# Altium schematic symbol library PBL - Resistors.SCHLIB: 153 symbols (part 1 of 3)
Pins are listed as number, name and electrical type; pins without a type are passive.

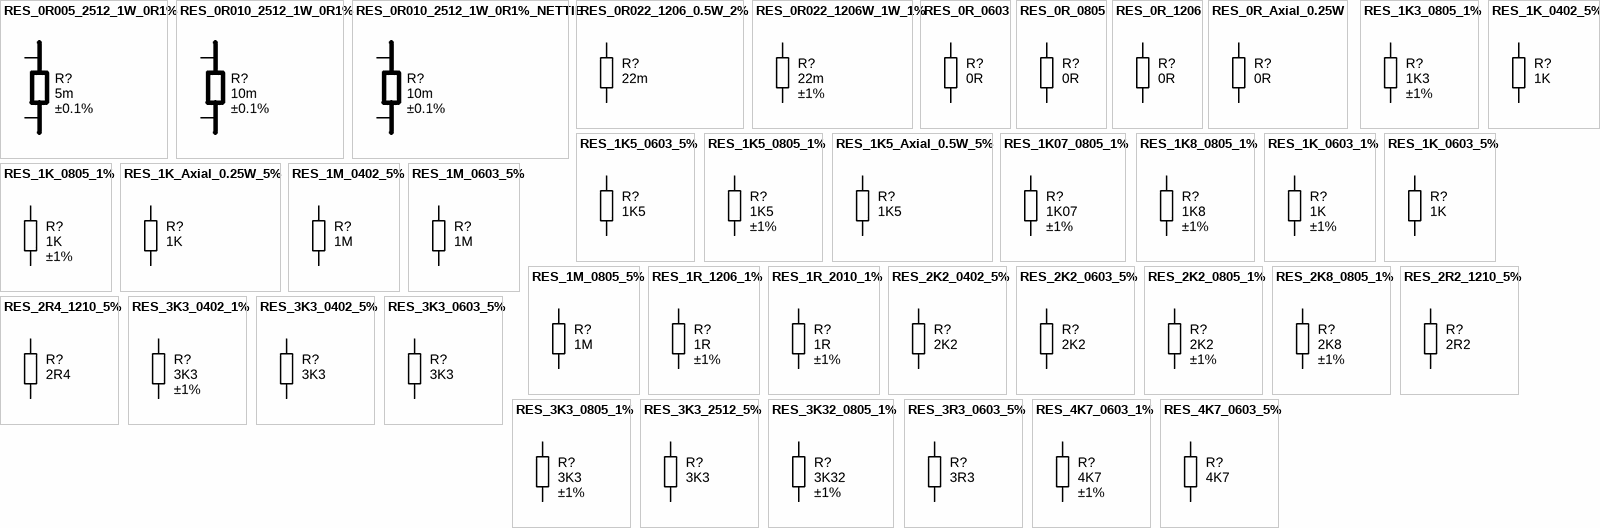
[diagram p0: symbols RES_0R005_2512_1W_0R1% to RES_4K7_0603_5%]

## RES_0R005_2512_1W_0R1%
designator R?, comment value 5m  Tolerance: ±0.1%  (hidden comment: Metal Foil with Kelvin terminations)
RES 0.005 OHM 1W 0.1% 2512 SMD; Manufacturer 1: Vishay Foil Resistors (Division of VPG); Manufacturer Part Number 1: Y14870R00500B9W; Temperature Coefficient: ±15ppm/°C; SCDType: undef; RoHS: RoHS Compliant; Category: Current Sense Resistors; Composition: Current Sense, Metal Foil; Power (Watts): 1W; Lead Style: Surface Mount (SMD - SMT); ComponentLink1URL: http://www.vishaypg.com/docs/63089/csm.pdf; ComponentLink1Description: http://www.vishaypg.com/docs/63089/csm.pdf; Package / Case: 2512 (6432 Metric); Size / Dimension: 0.250" L x 0.125" W (6.35mm x 3.18mm); Supplier 1: Digi-Key; Supplier Part Number 1: Y1487-.005-ND
footprint RESC6332X89_SENSE (SMD Sense Resistor with Kelvin terminations, Body 6.3x3.2mm, 2512, IPC Medium Density)
pins: E1 S, E2 S, I1 I, I2 I

## RES_0R010_2512_1W_0R1%
designator R?, comment value 10m  Tolerance: ±0.1%  (hidden comment: Metal Foil with Kelvin terminations)
RES 0.010 OHM 1W 0.1% 2512 SMD; Manufacturer 1: Vishay Foil Resistors (Division of VPG); Manufacturer Part Number 1: Y14870R01000B9W; Temperature Coefficient: ±15ppm/°C; SCDType: undef; RoHS: RoHS Compliant; Category: Current Sense Resistors; Composition: Current Sense, Metal Foil; Power (Watts): 1W; Lead Style: Surface Mount (SMD - SMT); Supplier 1: Digi-Key; Supplier Part Number 1: Y1487-.01-ND; ComponentLink1URL: http://www.vishaypg.com/docs/63089/csm.pdf; ComponentLink1Description: http://www.vishaypg.com/docs/63089/csm.pdf; Package / Case: 2512 (6432 Metric); Size / Dimension: 0.250" L x 0.125" W (6.35mm x 3.18mm)
footprint RESC6332X89_SENSE (SMD Sense Resistor with Kelvin terminations, Body 6.3x3.2mm, 2512, IPC Medium Density)
pins: E1 S, E2 S, I1 I, I2 I

## RES_0R010_2512_1W_0R1%_NETTIE
designator R?, comment value 10m  Tolerance: ±0.1%  (hidden comment: Metal Foil with Kelvin terminations)  (net tie, no BOM)
RES 0.010 OHM 1W 0.1% 2512 SMD; Manufacturer 1: Vishay Foil Resistors (Division of VPG); Manufacturer Part Number 1: Y14870R01000B9W; Temperature Coefficient: ±15ppm/°C; SCDType: undef; RoHS: RoHS Compliant; Category: Current Sense Resistors; Composition: Current Sense, Metal Foil; Power (Watts): 1W; Lead Style: Surface Mount (SMD - SMT); Supplier 1: Digi-Key; Supplier Part Number 1: Y1487-.01-ND; ComponentLink1URL: http://www.vishaypg.com/docs/63089/csm.pdf; ComponentLink1Description: http://www.vishaypg.com/docs/63089/csm.pdf; Package / Case: 2512 (6432 Metric); Size / Dimension: 0.250" L x 0.125" W (6.35mm x 3.18mm)
footprint RESC6332X89_SENSE_NETTIE (SMD Sense Resistor with Kelvin terminations, Body 6.3x3.2mm, 2512, IPC Medium Density)
pins: E1 S, E2 S, I1 I, I2 I

## RES_0R022_1206_0.5W_2%
designator R?, comment value 22m  (hidden comment: Thick Film)
Resistor SMD chip 22 milliohm 0.5W 2% 1206; Manufacturer 1: Susumu Co Ltd; Manufacturer Part Number 1: RL1632T-R022-G; Ratings: 1/2W; SCDType: spec; Tolerance: ±2%; Package / Case: 1206 (3216 metric); Supplier 1: Digi-Key; Supplier Part Number 1: RL16T.022GCT-ND
footprint RESC3216X70N (Chip Resistor, Body 3.2x1.6mm, 1206, IPC Medium Density)
pins: 1, 2

## RES_0R022_1206W_1W_1%
designator R?, comment value 22m  Tolerance: ±1%  (hidden comment: Thick film)
RES .022 OHM 1W 1% 1206 SMD; Manufacturer 1: Susumu Co Ltd; Manufacturer Part Number 1: PRL1632-R022-F-T1; Temperature Coefficient: ±100ppm/°C; SCDType: undef; Supplier 1: Digi-Key; Supplier Part Number 1: PRL1632.022FCT-ND; RoHS: RoHS Compliant; Description 1: RES .022 OHM 1W 1% 1206 SMD; Category: Resistors; Stock 1: 3537; Pricing 1: 1=1.15, 10=0.811, 50=0.6124, 100=0.5358, 250=0.47456, 500=0.39804 (USD); Composition: Current Sense, Thin Film; Power (Watts): 1W; Case: 1206 (3216 metric) Wide 0612 (1632 metric); Lead Style: Surface Mount (SMD - SMT); Packaging: Cut Tape (CT); ComponentLink1URL: http://www.susumu.co.jp/english/pdf/products-j01-07.pdf; ComponentLink1Description: http://www.susumu.co.jp/english/pdf/products-j01-07.pdf
footprint RESC3216X70N (Chip Resistor, Body 3.2x1.6mm, 1206, IPC Medium Density)
pins: 1, 2

## RES_0R_0603
designator R?, comment value 0R  (hidden comment: Thick Film)
Resistor SMD chip 0.0 Ohm 0.1W 0603; Manufacturer 1: Vishay/Dale; Manufacturer Part Number 1: CRCW06030000Z0EA; Tolerance: ±5%; Ratings: 1/10W; SCDType: spec; Package / Case: 0603 (1608metric); Supplier 1: Digi-Key; Supplier Part Number 1: 541-0.0GCT-ND; ComponentLink1URL: http://www.vishay.com/doc?20035; ComponentLink1Description: http://www.vishay.com/doc?20035; Supplier 2: Digi-Key; Supplier Part Number 2: P0.0GTR-ND; Manufacturer 2: Panasonic Electronic Components; Manufacturer Part Number 2: ERJ-3GEY0R00V; RoHS 2: RoHS Compliant; ComponentLink2URL: http://industrial.panasonic.com/www-cgi/jvcr13pz.cgi?E+PZ+3+AOA0001+ERJ3GEY0R00V+7+WW; ComponentLink2Description: http://industrial.panasonic.com/www-cgi/jvcr13pz.cgi?E+PZ+3+AOA0001+ERJ3GEY0R00V+7+WW; Supplier 3: Digi-Key; Supplier Part Number 3: 311-0.0LECT-ND; Manufacturer 3: Yageo; Manufacturer Part Number 3: AC0603JR-070RL; RoHS 3: RoHS Compliant; ComponentLink3URL: http://www.yageo.com/documents/recent/PYu-AC_51_RoHS_L_2.pdf; ComponentLink3Description: http://www.yageo.com/documents/recent/PYu-AC_51_RoHS_L_2.pdf
footprint RESC1608N_ZERO (Chip Resistor, Body 1.6x0.8mm, 0603, IPC Medium Density)
pins: 1, 2

## RES_0R_0805
designator R?, comment value 0R  (hidden comment: Jumper)
Resistor SMD chip 0.0 Ohm 0.125W 0805; Manufacturer 1: Samsung Electro-Mechanics America, Inc; Manufacturer Part Number 1: RC2012J000CS; Ratings: 1/8W; SCDType: spec; Tolerance: N/A; Package / Case: 0805 (2012 metric); Supplier 1: Digi-Key; Supplier Part Number 1: 1276-5466-6-ND; RoHS 1: RoHS Compliant; ComponentLink1URL: http://www.samsungsem.com/servlet/FileDownload?filename=productcatalog/pdf/Chip_Resistor.pdf; ComponentLink1Description: http://www.samsungsem.com/servlet/FileDownload?filename=productcatalog/pdf/Chip_Resistor.pdf; Supplier 2: Digi-Key; Supplier Part Number 2: RMCF0805ZT0R00DKR-ND; Manufacturer 2: Stackpole Electronics Inc; Manufacturer Part Number 2: RMCF0805ZT0R00; RoHS 2: RoHS Compliant; ComponentLink2URL: http://www.seielect.com/Catalog/SEI-RMCF_RMCP.pdf; ComponentLink2Description: http://www.seielect.com/Catalog/SEI-RMCF_RMCP.pdf; Supplier 3: Digi-Key; Supplier Part Number 3: 311-0.0ARDKR-ND; Manufacturer 3: Yageo; Manufacturer Part Number 3: RC0805JR-070RL; RoHS 3: RoHS Compliant; ComponentLink3URL: http://media.digikey.com/pdf/Data%20Sheets/Yageo%20PDFs/RC0805%20Pb%20Free.pdf; ComponentLink3Description: http://media.digikey.com/pdf/Data%20Sheets/Yageo%20PDFs/RC0805%20Pb%20Free.pdf; Supplier 4: Digi-Key; Supplier Part Number 4: P0.0ADKR-ND; Manufacturer 4: Panasonic Electronic Components; Manufacturer Part Number 4: ERJ-6GEY0R00V; RoHS 4: RoHS Compliant; ComponentLink4URL: http://industrial.panasonic.com/www-cgi/jvcr13pz.cgi?E+PZ+3+AOA0001+ERJ6GEY0R00V+7+WW; ComponentLink4Description: http://industrial.panasonic.com/www-cgi/jvcr13pz.cgi?E+PZ+3+AOA0001+ERJ6GEY0R00V+7+WW; Supplier 5: Digi-Key; Supplier Part Number 5: RHM0.0CPDKR-ND; Manufacturer 5: Rohm Semiconductor; Manufacturer Part Number 5: MCR10ERTJ000; RoHS 5: RoHS Compliant; ComponentLink5URL: http://rohmfs.rohm.com/en/products/databook/datasheet/passive/resistor/chip_resistor/mcr_g.pdf; ComponentLink5Description: http://rohmfs.rohm.com/en/products/databook/datasheet/passive/resistor/chip_resistor/mcr_g.pdf
footprint RESC2012N_ZERO (Chip Resistor, Body 2.0x1.2mm, 0805, IPC Medium Density)
pins: 1, 2

## RES_0R_1206
designator R?, comment value 0R  (hidden comment: Thick Film)
Resistor SMD chip 0.0 Ohm 0.25W 1206; Manufacturer 1: Vishay/Dale; Manufacturer Part Number 1: CRCW12060000Z0EA; Tolerance: ±5%; Ratings: 1/4W; SCDType: spec*\?; Package / Case: 1206 (3216 metric); Supplier 1: Digi-Key; Supplier Part Number 1: 541-0.0ECT-ND
footprint RESC3216N_ZERO (Chip Resistor, Body 3.2x1.6mm, 1206, IPC Medium Density)
pins: 1, 2

## RES_0R_Axial_0.25W
designator R?, comment value 0R  (hidden comment: Carbon Film)
Resistor THD 0.0 Ohm 0.25W Jumper; Manufacturer 1: Yageo; Manufacturer Part Number 1: ZOR-25-R; Ratings: 1/4W; SCDType: spec; Tolerance: Jumper; Package / Case: 2.30x6.30mm DxL; Supplier 1: Digi-Key; Supplier Part Number 1: 0.0QTR-ND; Supplier 2: Mouser; Supplier Part Number 2: 603-ZOR-25-R-520R
footprint RESTH_0.0R_AXIAL-0.6 (Axial Resistor 0 Ohm, Thru-Hole; 2 Leads; 0.6 in Pin Spacing)
pins: 1, 2

## RES_1K3_0805_1%
designator R?, comment value 1K3  Tolerance: ±1%  (hidden comment: Thick Film)
Resistor SMD chip 1.3k Ohm 0.125W 1% 0805; Manufacturer 1: Vishay/Dale; Manufacturer Part Number 1: CRCW08051K30FKEA; Ratings: 1/8W; SCDType: spec; Package / Case: 0805 (2012 metric); Supplier 1: Digi-Key; Supplier Part Number 1: 541-1.30KCCT-ND
footprint RESC2012X70N (Chip Resistor, Body 2.0x1.2mm, 0805, IPC Medium Density)
pins: 1, 2

## RES_1K5_0603_5%
designator R?, comment value 1K5  (hidden comment: Thick Film)
Resistor SMD chip 1.5k Ohm 0.1W 5% 0603; Manufacturer 1: Yageo; Manufacturer Part Number 1: RC0603JR-071K5L; Ratings: 1/10 W; SCDType: spec; Package / Case: 0603 (1608 metric); Tolerance: ±5%; Material: thick film; Supplier 1: Digi-Key; Supplier Part Number 1: 311-1.5KGRCT-ND
footprint RESC1608X55N (Chip Resistor, Body 1.6x0.8mm, 0603, IPC Medium Density)
pins: 1, 2

## RES_1K5_0805_1%
designator R?, comment value 1K5  Tolerance: ±1%  (hidden comment: Thick Film)
Resistor SMD chip 1.5k Ohm 0.125W 1% 0805; Manufacturer 1: Vishay/Dale; Manufacturer Part Number 1: CRCW08051K50FKEA; Ratings: 1/8W; SCDType: spec; Package / Case: 0805 (2012 metric); Supplier 1: Digi-Key; Supplier Part Number 1: 541-1.50KCCT-ND
footprint RESC2012X70N (Chip Resistor, Body 2.0x1.2mm, 0805, IPC Medium Density)
pins: 1, 2

## RES_1K5_Axial_0.5W_5%
designator R?, comment value 1K5  (hidden comment: Carbon Film)
Resistor THD Axial 1.5k Ohm 0.5W 5% Carbon Film; Manufacturer 1: Yageo; Manufacturer Part Number 1: CFR-50JB-1K5; Ratings: 1/2W; SCDType: spec; Tolerance: ±5%; Package / Case: Axial; Supplier 1: Digi-Key; Supplier Part Number 1: 1.5KH-ND
footprint RESTH_AXIAL-0.4
pins: 1, 2

## RES_1K07_0805_1%
designator R?, comment value 1K07  Tolerance: ±1%  (hidden comment: Thick Film)
Resistor SMD chip 1.07K Ohm 0.125W 1% 0805; Manufacturer 1: Panasonic Electronic Components; Manufacturer Part Number 1: ERJ-6ENF1071V; Ratings: 1/8W; SCDType: undef; Package / Case: 0805 (2012 Metric); Supplier 1: Digi-Key; Size / Dimension: 0.079" L x 0.049" W (2.00mm x 1.25mm); Supplier Part Number 1: P1.07KCCT-ND
footprint RESC2012X70N (Chip Resistor, Body 2.0x1.2mm, 0805, IPC Medium Density)
pins: 1, 2

## RES_1K8_0805_1%
designator R?, comment value 1K8  Tolerance: ±1%  (hidden comment: Thick Film)
Resistor SMD chip 1.8k Ohm 0.125W 1% 0805; Manufacturer 1: Vishay/Dale; Manufacturer Part Number 1: CRCW08051K80FKEA; Ratings: 1/8W; SCDType: spec; Package / Case: 0805 (2012 metric); Supplier 1: Digi-Key; Supplier Part Number 1: 541-1.80KCCT-ND
footprint RESC2012X70N (Chip Resistor, Body 2.0x1.2mm, 0805, IPC Medium Density)
pins: 1, 2

## RES_1K_0402_5%
designator R?, comment value 1K  (hidden comment: Thick Film)
Resistor SMD chip 1k Ohm 0.063W 5% 0402; Manufacturer 1: Yageo; Manufacturer Part Number 1: RC0402JR-071KL; Ratings: 1/16 W; SCDType: spec; Package / Case: 0402 (1005 Metric); Tolerance: ±5%; Supplier 1: Digi-Key; Supplier Part Number 1: 311-1.0KJRCT-ND; RoHS 1: RoHS Compliant; ComponentLink1URL: http://www.yageo.com/documents/recent/PYu-RC0402_51_RoHS_L_6.pdf; ComponentLink1Description: http://www.yageo.com/documents/recent/PYu-RC0402_51_RoHS_L_6.pdf; Supplier 2: Digi-Key; Supplier Part Number 2: 541-1.0KJCT-ND; Manufacturer 2: Vishay Dale; Manufacturer Part Number 2: CRCW04021K00JNED; RoHS 2: RoHS Compliant; ComponentLink2URL: http://www.vishay.com/doc?20035; ComponentLink2Description: http://www.vishay.com/doc?20035; Supplier 3: Digi-Key; Supplier Part Number 3: 1276-4376-1-ND; Manufacturer 3: Samsung Electro-Mechanics America, Inc; Manufacturer Part Number 3: RC1005J102CS; RoHS 3: RoHS Compliant; ComponentLink3URL: http://www.samsungsem.com/servlet/FileDownload?filename=productcatalog/pdf/Chip_Resistor.pdf; ComponentLink3Description: http://www.samsungsem.com/servlet/FileDownload?filename=productcatalog/pdf/Chip_Resistor.pdf; Supplier 4: Digi-Key; Supplier Part Number 4: RHM1.0KCECT-ND; Manufacturer 4: Rohm Semiconductor; Manufacturer Part Number 4: MCR01MRTJ102; RoHS 4: RoHS Compliant; ComponentLink4URL: http://rohmfs.rohm.com/en/products/databook/datasheet/passive/resistor/chip_resistor/mcr_g.pdf; ComponentLink4Description: http://rohmfs.rohm.com/en/products/databook/datasheet/passive/resistor/chip_resistor/mcr_g.pdf; Supplier 5: Digi-Key; Supplier Part Number 5: P1.0KJCT-ND; Manufacturer 5: Panasonic Electronic Components; Manufacturer Part Number 5: ERJ-2GEJ102X; RoHS 5: RoHS Compliant; ComponentLink5URL: http://industrial.panasonic.com/www-cgi/jvcr13pz.cgi?E+PZ+3+AOA0001+ERJ2GEJ102X+7+WW; ComponentLink5Description: http://industrial.panasonic.com/www-cgi/jvcr13pz.cgi?E+PZ+3+AOA0001+ERJ2GEJ102X+7+WW
footprint RESC1005X40N (Chip Resistor, Body 1.0x0.5mm, EIA 0402, IPC Medium Density)
pins: 1, 2

## RES_1K_0603_1%
designator R?, comment value 1K  Tolerance: ±1%  (hidden comment: Thick Film)
Resistor SMD chip 1k Ohm 0.1W 1% 0603; Manufacturer 1: Yageo; Manufacturer Part Number 1: RC0603FR-071KL; Ratings: 1/10W; SCDType: spec; Package / Case: 0603 (1608 Metric); Supplier 1: Digi-Key; Supplier Part Number 1: 311-1.00KHRCT-ND
footprint RESC1608X55N (Chip Resistor, Body 1.6x0.8mm, 0603, IPC Medium Density)
pins: 1, 2

## RES_1K_0603_5%
designator R?, comment value 1K  (hidden comment: Thick Film)
Resistor SMD chip 1k Ohm 0.1W 5% 0603; Manufacturer 1: Yageo; Manufacturer Part Number 1: RC0603JR-071KL; Ratings: 1/10 W; SCDType: spec; Package / Case: 0603 (1608 metric); Tolerance: ±5%; Material: Thick Film; Supplier 1: Digi-Key; Supplier Part Number 1: 311-1.0KGRCT-ND; Supplier 2: Digi-Key; Supplier Part Number 2: 541-1.0KGCT-ND; Manufacturer 2: Vishay Dale; Manufacturer Part Number 2: CRCW06031K00JNEA; ComponentLink2URL: http://www.vishay.com/doc?20008; ComponentLink2Description: http://www.vishay.com/doc?20008; ComponentLink1URL: http://www.yageo.com/documents/recent/PYu-RC0603_51_RoHS_L_4.pdf; ComponentLink1Description: http://www.yageo.com/documents/recent/PYu-RC0603_51_RoHS_L_4.pdf
footprint RESC1608X55N (Chip Resistor, Body 1.6x0.8mm, 0603, IPC Medium Density)
pins: 1, 2

## RES_1K_0805_1%
designator R?, comment value 1K  Tolerance: ±1%  (hidden comment: Thick Film)
Resistor SMD chip 1k Ohm 0.125W 1% 0805; Manufacturer 1: Vishay/Dale; Manufacturer Part Number 1: CRCW08051K00FKEA; Ratings: 1/8W; SCDType: spec; Supplier 1: Digi-Key; Supplier Part Number 1: 541-1.00KCCT-ND; Package / Case: 0805 (2012 metric)
footprint RESC2012X70N (Chip Resistor, Body 2.0x1.2mm, 0805, IPC Medium Density)
pins: 1, 2

## RES_1K_Axial_0.25W_5%
designator R?, comment value 1K  (hidden comment: Carbon Film)
Resistor THD Axial 1k Ohm 0.25W 5% Carbon Film; Manufacturer 1: Yageo; Manufacturer Part Number 1: CFR-25JB-1K0; Ratings: 1/4W; SCDType: spec; Tolerance: ±5%; Package / Case: Axial; Supplier 1: Digi-Key; Supplier Part Number 1: 1.0KQBK-ND
footprint RESTH_AXIAL-0.4
pins: 1, 2

## RES_1M_0402_5%
designator R?, comment value 1M  (hidden comment: Thick Film)
Resistor SMD chip 1M Ohm 0.063W 5% 0402; Manufacturer 1: Vishay Dale; Manufacturer Part Number 1: CRCW04021M00JNED; Ratings: 1/16 W; Power Rating: 0.063W, 1/16W; SCDType: spec; Package / Case: 0402 (1005 Metric); Tolerance: ±5%; Material: Thick Film; Manufacturer 2: Yageo; Manufacturer Part Number 2: RC0402JR-071ML; Supplier 1: Digi-Key; Supplier Part Number 1: 541-1.0MJCT-ND; ComponentLink1URL: http://www.vishay.com/doc?20035; ComponentLink1Description: http://www.vishay.com/doc?20035; Supplier 2: Digi-Key; Supplier Part Number 2: 311-1.0MJRCT-ND; ComponentLink2URL: http://www.yageo.com/documents/recent/PYu-RC0402_51_RoHS_L_6.pdf; ComponentLink2Description: http://www.yageo.com/documents/recent/PYu-RC0402_51_RoHS_L_6.pdf
footprint RESC1005X40N (Chip Resistor, Body 1.0x0.5mm, EIA 0402, IPC Medium Density)
pins: 1, 2

## RES_1M_0603_5%
designator R?, comment value 1M  (hidden comment: Thick Film)
Resistor SMD chip 1M Ohm 0.1W 5% 0603; Manufacturer 1: Vishay Dale; Manufacturer Part Number 1: CRCW06031M00JNEA; Ratings: 1/10 W; SCDType: spec; Package / Case: 0603 (1608 metric); Tolerance: ±5%; Material: Thick Film; Supplier 1: Digi-Key; Supplier Part Number 1: 541-1.0MGCT-ND; ComponentLink1URL: http://www.vishay.com/doc?20008; ComponentLink1Description: http://www.vishay.com/doc?20008; Supplier 2: Digi-Key; Supplier Part Number 2: 311-1.0MGRCT-ND; ComponentLink2URL: http://www.yageo.com/documents/recent/PYu-RC0603_51_RoHS_L_4.pdf; ComponentLink2Description: http://www.yageo.com/documents/recent/PYu-RC0603_51_RoHS_L_4.pdf; Manufacturer 2: Yageo; Manufacturer Part Number 2: RC0603JR-071ML
footprint RESC1608X55N (Chip Resistor, Body 1.6x0.8mm, 0603, IPC Medium Density)
pins: 1, 2

## RES_1M_0805_5%
designator R?, comment value 1M  (hidden comment: Thick Film)
Resistor SMD chip 1M Ohm 0.125W 5% 0805; Manufacturer 1: Vishay/Dale; Manufacturer Part Number 1: CRCW08051M00JNEA; Ratings: 1/8W; SCDType: spec; Tolerance: ±5%; Package / Case: 0805 (2012 metric); Supplier 1: Digi-Key; Supplier Part Number 1: 541-1.0MACT-ND
footprint RESC2012X70N (Chip Resistor, Body 2.0x1.2mm, 0805, IPC Medium Density)
pins: 1, 2

## RES_1R_1206_1%
designator R?, comment value 1R  Tolerance: ±1%  (hidden comment: Thick Film)
Resistor SMD chip 1 Ohm 250mW 1% 1206; Manufacturer 1: KOA Speer; Manufacturer Part Number 1: RK73H2BTTD1R00F; Ratings: 1/4W; 200V; Parameter Name: 100 PPM / C; SCDType: spec; Package / Case: 1206 (3216 metric); Material: Thick Film; Supplier 1: Mouser; Supplier Part Number 1: 660-RK73H2BTTD1R00F
footprint RESC3216X70N (Chip Resistor, Body 3.2x1.6mm, 1206, IPC Medium Density)
pins: 1, 2

## RES_1R_2010_1%
designator R?, comment value 1R  Tolerance: ±1%  (hidden comment: Thick Film)
Resistor SMD chip 1 Ohm 1W 1% 2010; Manufacturer 1: Vishay/Dale; Manufacturer Part Number 1: CRCW20101R00FKEFHP; Ratings: 1W; 400V; SCDType: spec; Package / Case: 2010 (5025 metric); Material: Thick Film; Supplier 1: Digi-Key; Supplier Part Number 1: 541-1.00PCT-ND
footprint RESC5025X70N (Chip Resistor, Body 5.0x2.5mm, 2010, IPC Medium Density)
pins: 1, 2

## RES_2K2_0402_5%
designator R?, comment value 2K2  (hidden comment: Thick Film)
Resistor SMD chip 2.2k Ohm 0.063W 5% 0402; Manufacturer 1: Vishay Dale; Manufacturer Part Number 1: CRCW04022K20JNED; Ratings: 1/16 W; SCDType: spec; Package / Case: 0402 (1005 metric); Tolerance: ±5%; Material: Thick Film; Manufacturer 2: Yageo; Manufacturer Part Number 2: RC0402JR-072K2L; Supplier 1: Digi-Key; Supplier Part Number 1: 541-2.2KJCT-ND; ComponentLink1URL: http://www.vishay.com/doc?20035; ComponentLink1Description: http://www.vishay.com/doc?20035; Supplier 2: Digi-Key; Supplier Part Number 2: 311-2.2KJRCT-ND; ComponentLink2URL: http://www.yageo.com/documents/recent/PYu-RC0402_51_RoHS_L_6.pdf; ComponentLink2Description: http://www.yageo.com/documents/recent/PYu-RC0402_51_RoHS_L_6.pdf
footprint RESC1005X40N (Chip Resistor, Body 1.0x0.5mm, EIA 0402, IPC Medium Density)
pins: 1, 2

## RES_2K2_0603_5%
designator R?, comment value 2K2  (hidden comment: Thick Film)
Resistor SMD chip 2.2k Ohm 0.1W 5% 0603; Manufacturer 1: Yageo; Manufacturer Part Number 1: RC0603JR-072K2L; Ratings: 1/10 W; SCDType: spec; Temperature Coefficient: ±100ppm/°C; Package / Case: 0603 (1608 metric); Tolerance: ±5%; Material: Thick Film; Supplier 1: Digi-Key; Supplier Part Number 1: 311-2.2KGRDKR-ND; RoHS 1: RoHS Compliant; ComponentLink1URL: http://www.yageo.com/documents/recent/PYu-RC0603_51_RoHS_L_4.pdf; ComponentLink1Description: http://www.yageo.com/documents/recent/PYu-RC0603_51_RoHS_L_4.pdf; Supplier 2: Digi-Key; Supplier Part Number 2: 1276-5070-6-ND; Manufacturer 2: Samsung Electro-Mechanics America, Inc; Manufacturer Part Number 2: RC1608J222CS; RoHS 2: RoHS Compliant; ComponentLink2URL: http://www.samsungsem.com/servlet/FileDownload?filename=productcatalog/pdf/Chip_Resistor.pdf; ComponentLink2Description: http://www.samsungsem.com/servlet/FileDownload?filename=productcatalog/pdf/Chip_Resistor.pdf; Supplier 3: Digi-Key; Supplier Part Number 3: RMCF0603JT2K20DKR-ND; Manufacturer 3: Stackpole Electronics Inc; Manufacturer Part Number 3: RMCF0603JT2K20; RoHS 3: RoHS Compliant; ComponentLink3URL: http://www.seielect.com/Catalog/SEI-RMCF_RMCP.pdf; ComponentLink3Description: http://www.seielect.com/Catalog/SEI-RMCF_RMCP.pdf; Supplier 4: Digi-Key; Supplier Part Number 4: RHM2.2KCGDKR-ND; Manufacturer 4: Rohm Semiconductor; Manufacturer Part Number 4: MCR03ERTJ222; RoHS 4: RoHS Compliant; ComponentLink4URL: http://rohmfs.rohm.com/en/products/databook/datasheet/passive/resistor/chip_resistor/mcr_g.pdf; ComponentLink4Description: http://rohmfs.rohm.com/en/products/databook/datasheet/passive/resistor/chip_resistor/mcr_g.pdf; Supplier 5: Digi-Key; Supplier Part Number 5: P2.2KGDKR-ND; Manufacturer 5: Panasonic Electronic Components; Manufacturer Part Number 5: ERJ-3GEYJ222V; RoHS 5: RoHS Compliant; ComponentLink5URL: http://industrial.panasonic.com/www-cgi/jvcr13pz.cgi?E+PZ+3+AOA0001+ERJ3GEYJ222V+7+WW; ComponentLink5Description: http://industrial.panasonic.com/www-cgi/jvcr13pz.cgi?E+PZ+3+AOA0001+ERJ3GEYJ222V+7+WW
footprint RESC1608X55N (Chip Resistor, Body 1.6x0.8mm, 0603, IPC Medium Density)
pins: 1, 2

## RES_2K2_0805_1%
designator R?, comment value 2K2  Tolerance: ±1%  (hidden comment: Thick Film)
Resistor SMD chip 2.2k Ohm 0.125W 1% 0805; Manufacturer 1: Vishay/Dale; Manufacturer Part Number 1: CRCW08052K20FKEA; Ratings: 1/8W; SCDType: spec; Supplier 1: Digi-Key; Supplier Part Number 1: 541-2.20KCCT-ND; Package / Case: 0805 (2012 metric)
footprint RESC2012X70N (Chip Resistor, Body 2.0x1.2mm, 0805, IPC Medium Density)
pins: 1, 2

## RES_2K8_0805_1%
designator R?, comment value 2K8  Tolerance: ±1%  (hidden comment: Thick Film)
Resistor SMD chip 2.8k Ohm 0.125W 1% 0805; Manufacturer 1: Vishay/Dale; Manufacturer Part Number 1: CRCW08052K80FKEA; Ratings: 1/8W; SCDType: spec; Package / Case: 0805 (2012 metric); Supplier 1: Digi-Key; Supplier Part Number 1: 541-2.80KCCT-ND
footprint RESC2012X70N (Chip Resistor, Body 2.0x1.2mm, 0805, IPC Medium Density)
pins: 1, 2

## RES_2R2_1210_5%
designator R?, comment value 2R2  (hidden comment: Thick Film)
Resistor SMD chip 2.2 Ohm 0.5W 5% 1210; Manufacturer 1: Panasonic - ECG; Manufacturer Part Number 1: ERJ-14YJ2R2U; Ratings: 1/2 W; SCDType: spec; Package / Case: 1210 (3225 metric); Tolerance: ±5%; Supplier 1: Digi-Key; Supplier Part Number 1: P2.2VCT-ND; ComponentLink1URL: http://industrial.panasonic.com/www-cgi/jvcr13pz.cgi?E+PZ+3+AOA0001+ERJ14YJ2R2U+7+WW; ComponentLink1Description: http://industrial.panasonic.com/www-cgi/jvcr13pz.cgi?E+PZ+3+AOA0001+ERJ14YJ2R2U+7+WW
footprint RESC3225X70N (Chip Resistor, Body 3.2x2.5mm, 1210, IPC Medium Density)
pins: 1, 2

## RES_2R4_1210_5%
designator R?, comment value 2R4  (hidden comment: Thick Film)
Resistor SMD chip 2.4 Ohm 0.5W 5% 1210; Manufacturer 1: Panasonic - ECG; Manufacturer Part Number 1: ERJ-14YJ2R4U; Ratings: 1/2 W; SCDType: spec; Package / Case: 1210 (3225 metric); Tolerance: ±5%; ComponentLink1URL: http://industrial.panasonic.com/www-cgi/jvcr13pz.cgi?E+PZ+3+AOA0001+ERJ14YJ2R2U+7+WW; ComponentLink1Description: http://industrial.panasonic.com/www-cgi/jvcr13pz.cgi?E+PZ+3+AOA0001+ERJ14YJ2R2U+7+WW; Supplier 1: Digi-Key; Supplier Part Number 1: P2.4VCT-ND
footprint RESC3225X70N (Chip Resistor, Body 3.2x2.5mm, 1210, IPC Medium Density)
pins: 1, 2

## RES_3K3_0402_1%
designator R?, comment value 3K3  Tolerance: ±1%  (hidden comment: Thick Film)
Resistor SMD chip 3.3k Ohm 0.063W 1% 0402; Manufacturer 1: Yageo; Manufacturer Part Number 1: RC0402FR-073K3L; Ratings: 1/16 W; 100ppm/°C; SCDType: spec; Temperature Coefficient: ±100ppm/°C; Package / Case: 0402 (1005 Metric); Supplier 1: Digi-Key; Supplier Part Number 1: 311-3.30KLRCT-ND; RoHS 1: RoHS Compliant; ComponentLink1URL: http://www.yageo.com/documents/recent/PYu-RC0402_51_RoHS_L_6.pdf; ComponentLink1Description: http://www.yageo.com/documents/recent/PYu-RC0402_51_RoHS_L_6.pdf; Supplier 2: Digi-Key; Supplier Part Number 2: 541-3.30KLCT-ND; Manufacturer 2: Vishay Dale; Manufacturer Part Number 2: CRCW04023K30FKED; RoHS 2: RoHS Compliant; ComponentLink2URL: http://www.vishay.com/doc?20035; ComponentLink2Description: http://www.vishay.com/doc?20035; Supplier 3: Digi-Key; Supplier Part Number 3: 1276-3460-1-ND; Manufacturer 3: Samsung Electro-Mechanics America, Inc; Manufacturer Part Number 3: RC1005F332CS; RoHS 3: RoHS Compliant; ComponentLink3URL: http://media.digikey.com/pdf/Data%20Sheets/Samsung%20PDFs/CHIP_RESISTOR_Catalog.pdf; ComponentLink3Description: http://media.digikey.com/pdf/Data%20Sheets/Samsung%20PDFs/CHIP_RESISTOR_Catalog.pdf; Supplier 4: Digi-Key; Supplier Part Number 4: RMCF0402FT3K30CT-ND; Manufacturer 4: Stackpole Electronics Inc; Manufacturer Part Number 4: RMCF0402FT3K30; RoHS 4: RoHS Compliant; ComponentLink4URL: http://www.seielect.com/Catalog/SEI-RMCF_RMCP.pdf; ComponentLink4Description: http://www.seielect.com/Catalog/SEI-RMCF_RMCP.pdf; Supplier 5: Digi-Key; Supplier Part Number 5: RHM3.30KLCT-ND; Manufacturer 5: Rohm Semiconductor; Manufacturer Part Number 5: MCR01MZPF3301; RoHS 5: RoHS Compliant; ComponentLink5URL: http://rohmfs.rohm.com/en/products/databook/datasheet/passive/resistor/chip_resistor/mcr_a.pdf; ComponentLink5Description: http://rohmfs.rohm.com/en/products/databook/datasheet/passive/resistor/chip_resistor/mcr_a.pdf
footprint RESC1005X40N (Chip Resistor, Body 1.0x0.5mm, EIA 0402, IPC Medium Density)
pins: 1, 2

## RES_3K3_0402_5%
designator R?, comment value 3K3  (hidden comment: Thick Film)
Resistor SMD chip 3.3k Ohm 0.063W 5% 0402; Manufacturer 1: Yageo; Manufacturer Part Number 1: RC0402JR-073K3L; Ratings: 1/16 W; SCDType: spec; Package / Case: 0402 (1005 metric); Tolerance: ±5%; Material: Thick Film; Supplier 1: Digi-Key; Supplier Part Number 1: 311-3.3KJRCT-ND; ComponentLink1URL: http://www.yageo.com/documents/recent/PYu-RC0402_51_RoHS_L_6.pdf; ComponentLink1Description: http://www.yageo.com/documents/recent/PYu-RC0402_51_RoHS_L_6.pdf
footprint RESC1005X40N (Chip Resistor, Body 1.0x0.5mm, EIA 0402, IPC Medium Density)
pins: 1, 2

## RES_3K3_0603_5%
designator R?, comment value 3K3  (hidden comment: Thick Film)
Resistor SMD chip 3.3k Ohm 0.1W 5% 0603; Manufacturer 1: Yageo; Manufacturer Part Number 1: RC0603JR-073K3L; Ratings: 1/10 W; SCDType: undef; Package / Case: 0603 (1608 metric); Tolerance: ±5%; Material: thick film; Supplier 1: Digi-Key; Supplier Part Number 1: 311-3.3KGRTR-ND
footprint RESC1608X55N (Chip Resistor, Body 1.6x0.8mm, 0603, IPC Medium Density)
pins: 1, 2

## RES_3K3_0805_1%
designator R?, comment value 3K3  Tolerance: ±1%  (hidden comment: Thick Film)
Resistor SMD chip 3.3k Ohm 0.125W 1% 0805; Manufacturer 1: Vishay/Dale; Manufacturer Part Number 1: CRCW08053K30FKEA; Ratings: 1/8W; SCDType: spec; Package / Case: 0805 (2012 metric); Supplier 1: Digi-Key; Supplier Part Number 1: 541-3.30KCCT-ND
footprint RESC2012X70N (Chip Resistor, Body 2.0x1.2mm, 0805, IPC Medium Density)
pins: 1, 2

## RES_3K3_2512_5%
designator R?, comment value 3K3  (hidden comment: Thick Film)
Resistor SMD chip 3.3k Ohm 1W 5% 2512; Manufacturer 1: Vishay/Dale; Manufacturer Part Number 1: CRCW25123K30JNEG; SCDType: spec; Tolerance: ±5%; Ratings: 1W; Material: Thick Film; Supplier 1: Digi-Key; Supplier Part Number 1: 541-3.3KXCT-ND; Package / Case: 2512 (6332 metric)
footprint RESC6332X70N (Chip Resistor, Body 6.3x3.2mm, 2512, IPC Medium Density)
pins: 1, 2

## RES_3K32_0805_1%
designator R?, comment value 3K32  Tolerance: ±1%  (hidden comment: Thick Film)
Resistor SMD chip 3.32K Ohm 0.125W 0805; Manufacturer 1: Panasonic Electronic Components; Manufacturer Part Number 1: ERJ-6ENF3321V; Ratings: 1/8W; SCDType: undef; Package / Case: 0805 (2012 Metric); Supplier 1: Digi-Key; Size / Dimension: 0.079" L x 0.049" W (2.00mm x 1.25mm); Supplier Part Number 1: P3.32KCCT-ND
footprint RESC2012X70N (Chip Resistor, Body 2.0x1.2mm, 0805, IPC Medium Density)
pins: 1, 2

## RES_3R3_0603_5%
designator R?, comment value 3R3  (hidden comment: Thick Film)
Resistor SMD chip 3.3 Ohm 0.1W 5% 0603; Manufacturer 1: Yageo; Manufacturer Part Number 1: RC0603JR-073R3L; Ratings: 1/10 W; SCDType: spec; Package / Case: 0603 (1608 metric); Tolerance: ±5%; ComponentLink1URL: http://www.yageo.com/documents/recent/PYu-RC0603_51_RoHS_L_4.pdf; ComponentLink1Description: http://www.yageo.com/documents/recent/PYu-RC0603_51_RoHS_L_4.pdf; Supplier 1: Digi-Key; Supplier Part Number 1: 311-3.3GRCT-ND
footprint RESC1608X55N (Chip Resistor, Body 1.6x0.8mm, 0603, IPC Medium Density)
pins: 1, 2

## RES_4K7_0603_1%
designator R?, comment value 4K7  Tolerance: ±1%  (hidden comment: Thick Film)
Resistor SMD chip 4.7K Ohm 0.1W 1% 0603; Manufacturer: Yageo; Manufacturer Part Number: RC0603FR-074K7L; Ratings: 1/10W; SCDType: undef; Package / Case: 0603 (1608 Metric); Supplier 1: Digi-Key; Supplier Part Number 1: 311-4.70KHRCT-ND
footprint RESC1608X55N (Chip Resistor, Body 1.6x0.8mm, 0603, IPC Medium Density)
pins: 1, 2

## RES_4K7_0603_5%
designator R?, comment value 4K7  (hidden comment: Thick Film)
Resistor SMD chip 4.7k Ohm 0.1W 5% 0603; Manufacturer 1: Vishay/Dale; Manufacturer Part Number 1: CRCW06034K70JNEA; Ratings: 1/10 W; SCDType: spec; Package / Case: 0603 (1608 metric); Tolerance: ±5%; Material: Thick Film; Supplier 1: Digi-Key; Supplier Part Number 1: 541-4.7KGCT-ND
footprint RESC1608X55N (Chip Resistor, Body 1.6x0.8mm, 0603, IPC Medium Density)
pins: 1, 2

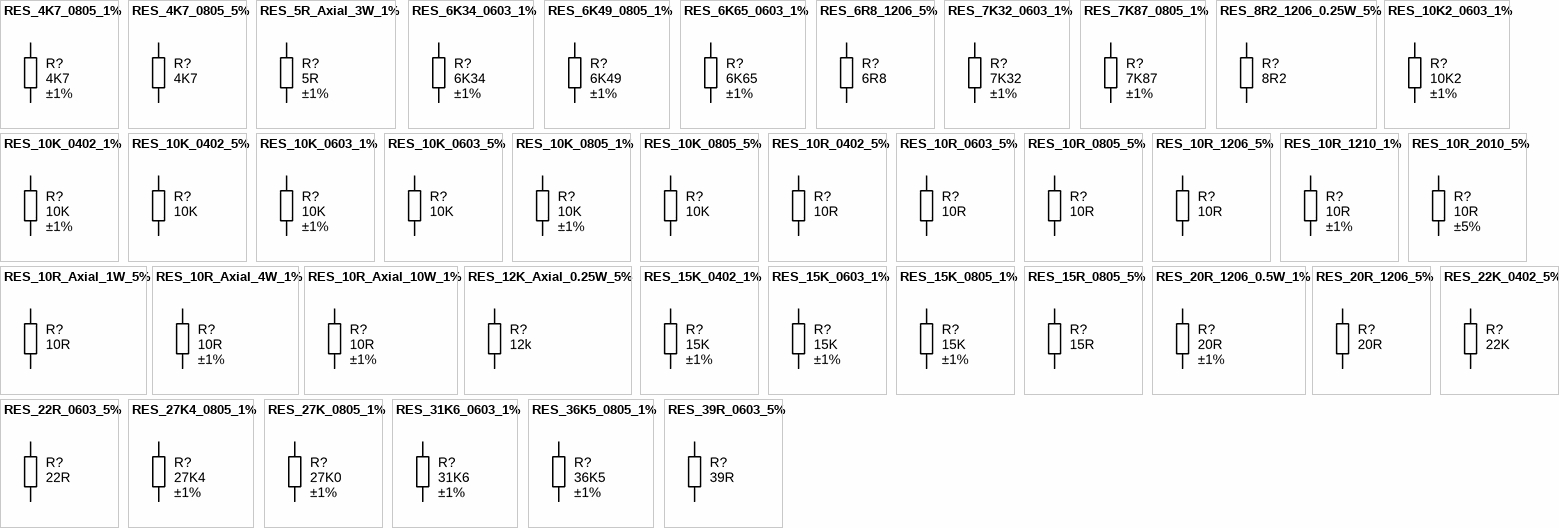
[diagram p1: symbols RES_4K7_0805_1% to RES_39R_0603_5%]

## RES_4K7_0805_1%
designator R?, comment value 4K7  Tolerance: ±1%  (hidden comment: Thick Film)
Resistor SMD chip 4.7k Ohm 0.125W 1% 0805; Manufacturer 1: Vishay/Dale; Manufacturer Part Number 1: CRCW08054K70FKEA; Ratings: 1/8W; SCDType: spec; Package / Case: 0805 (2012 metric); Supplier 1: Digi-Key; Supplier Part Number 1: 541-4.70KCCT-ND
footprint RESC2012X70N (Chip Resistor, Body 2.0x1.2mm, 0805, IPC Medium Density)
pins: 1, 2

## RES_4K7_0805_5%
designator R?, comment value 4K7  (hidden comment: Thick Film)
Resistor SMD chip 4.7k Ohm 0.125W 5% 0805; Manufacturer 1: Yageo; Manufacturer Part Number 1: RC0805JR-074K7L; Ratings: 1/8 W; SCDType: spec; Package / Case: 0805 (2012 metric); Tolerance: ±5%; Material: Thick Film; Supplier 1: Digi-Key; Supplier Part Number 1: 311-4.7KARCT-ND
footprint RESC2012X70N (Chip Resistor, Body 2.0x1.2mm, 0805, IPC Medium Density)
pins: 1, 2

## RES_5R_Axial_3W_1%
designator R?, comment value 5R  Tolerance: ±1%  (hidden comment: Wirewound)
Resistor THD 5 Ohm 3W 1% Wirewound; Manufacturer 1: Vishay/Dale; Manufacturer Part Number 1: RS02B5R000FE70; SCDType: spec; Package / Case: 4.75x15.80mm DxL; Ratings: 3W; Material: Wirewound; Size / Dimension: 0.187" Dia x 0.622" L (4.75mm x 15.80mm); ComponentLink1URL: http://www.vishay.com/doc?30204; ComponentLink1Description: http://www.vishay.com/doc?30204; Supplier 1: Digi-Key; Supplier Part Number 1: RSB-5.0RCT-ND
footprint RESTH_AXIAL_RS02B (Axial Resistor Thru-Hole; 2 Leads)
pins: 1, 2

## RES_6K34_0603_1%
designator R?, comment value 6K34  Tolerance: ±1%  (hidden comment: Thick Film)
Resistor SMD chip 6.34k Ohm 0.1W 1% 0603; Manufacturer 1: Yageo; Manufacturer Part Number 1: RC0603FR-076K34L; Ratings: 1/10W; SCDType: spec; Package / Case: 0603 (1608 Metric); Supplier 1: Digi-Key; Supplier Part Number 1: 311-6.34KHRCT-ND
footprint RESC1608X55N (Chip Resistor, Body 1.6x0.8mm, 0603, IPC Medium Density)
pins: 1, 2

## RES_6K49_0805_1%
designator R?, comment value 6K49  Tolerance: ±1%  (hidden comment: Thick Film)
Resistor SMD chip 6.49k Ohm 0.125W 1% 0805; Manufacturer: Vishay/Dale; Manufacturer Part Number: CRCW08056K49FKEA; Ratings: 1/8W; SCDType: spec; Package / Case: 0805 (2012 metric); Supplier 1: Digi-Key; Supplier Part Number 1: 541-6.49KCCT-ND
footprint RESC2012X70N (Chip Resistor, Body 2.0x1.2mm, 0805, IPC Medium Density)
pins: 1, 2

## RES_6K65_0603_1%
designator R?, comment value 6K65  Tolerance: ±1%  (hidden comment: Thick Film)
Resistor SMD chip 6.65k Ohm 0.1W 1% 0603; Manufacturer 1: Yageo; Manufacturer Part Number 1: RC0603FR-076K65L; Ratings: 1/10W; SCDType: spec; Package / Case: 0603 (1608 Metric); Supplier 1: Digi-Key; Supplier Part Number 1: 311-6.65KHRCT-ND; ComponentLink1URL: http://www.yageo.com/documents/recent/PYu-RC0603_51_RoHS_L_4.pdf; ComponentLink1Description: http://www.yageo.com/documents/recent/PYu-RC0603_51_RoHS_L_4.pdf
footprint RESC1608X55N (Chip Resistor, Body 1.6x0.8mm, 0603, IPC Medium Density)
pins: 1, 2

## RES_6R8_1206_5%
designator R?, comment value 6R8  (hidden comment: Thick Film)
Resistor SMD chip 6.8 Ohm 0.25W 5% 1206; Manufacturer 1: Vishay/Dale; Manufacturer Part Number 1: CRCW12066R80JNEA; Ratings: 1/4W; SCDType: spec; Tolerance: ±5%; Package / Case: 1206 (3216 metric); Supplier 1: Digi-Key; Supplier Part Number 1: 541-6.8ECT-ND
footprint RESC3216X70N (Chip Resistor, Body 3.2x1.6mm, 1206, IPC Medium Density)
pins: 1, 2

## RES_7K32_0603_1%
designator R?, comment value 7K32  Tolerance: ±1%  (hidden comment: Thick Film)
Resistor SMD chip 7.32 kOhm 0.1W 1% 0603; Manufacturer 1: Panasonic Electronic Components; Manufacturer Part Number 1: ERJ-3EKF7321V; Ratings: 1/10W; SCDType: Spec; Package / Case: 0603 (1608 Metric); Supplier 1: Digi-Key; Supplier Part Number 1: P7.32KHCT-ND; RoHS 1: RoHS Compliant; ComponentLink1URL: http://industrial.panasonic.com/www-cgi/jvcr13pz.cgi?E+PZ+3+AOA0002+ERJ3EKF7321V+7+WW; ComponentLink1Description: http://industrial.panasonic.com/www-cgi/jvcr13pz.cgi?E+PZ+3+AOA0002+ERJ3EKF7321V+7+WW; Supplier 2: Digi-Key; Supplier Part Number 2: 311-7.32KHRCT-ND; Manufacturer 2: Yageo; Manufacturer Part Number 2: RC0603FR-077K32L; RoHS 2: RoHS Compliant; ComponentLink2URL: http://www.yageo.com/documents/recent/PYu-RC0603_51_RoHS_L_4.pdf; ComponentLink2Description: http://www.yageo.com/documents/recent/PYu-RC0603_51_RoHS_L_4.pdf; Supplier 3: Digi-Key; Supplier Part Number 3: 541-7.32KHCT-ND; Manufacturer 3: Vishay Dale; Manufacturer Part Number 3: CRCW06037K32FKEA; RoHS 3: RoHS Compliant; ComponentLink3URL: http://www.vishay.com/doc?20035; ComponentLink3Description: http://www.vishay.com/doc?20035; Supplier 4: Digi-Key; Supplier Part Number 4: RHM7.32KCFCT-ND; Manufacturer 4: Rohm Semiconductor; Manufacturer Part Number 4: MCR03ERTF7321; RoHS 4: RoHS Compliant; ComponentLink4URL: http://rohmfs.rohm.com/en/products/databook/datasheet/passive/resistor/chip_resistor/mcr_g.pdf; ComponentLink4Description: http://rohmfs.rohm.com/en/products/databook/datasheet/passive/resistor/chip_resistor/mcr_g.pdf
footprint RESC1608X55N (Chip Resistor, Body 1.6x0.8mm, 0603, IPC Medium Density)
pins: 1, 2

## RES_7K87_0805_1%
designator R?, comment value 7K87  Tolerance: ±1%  (hidden comment: Thick Film)
Resistor SMD chip 7.87k Ohm 0.125W 1% 0805; Manufacturer 1: Vishay/Dale; Manufacturer Part Number 1: CRCW08057K87FKEA; Ratings: 1/8W; SCDType: spec; Package / Case: 0805 (2012 metric); Supplier 1: Digi-Key; Supplier Part Number 1: 541-7.87KCCT-ND
footprint RESC2012X70N (Chip Resistor, Body 2.0x1.2mm, 0805, IPC Medium Density)
pins: 1, 2

## RES_8R2_1206_0.25W_5%
designator R?, comment value 8R2  (hidden comment: Thick Film)
Resistor SMD chip 8.2 Ohm 0.25W 5% 1206; Manufacturer 1: Royal Ohm; Manufacturer Part Number 1: 1206WAJ08R2; Ratings: 1/4 W; SCDType: spec; Package / Case: 1206 (3216 metric); Tolerance: ±5%
footprint RESC3216X70N (Chip Resistor, Body 3.2x1.6mm, 1206, IPC Medium Density)
pins: 1, 2

## RES_10K2_0603_1%
designator R?, comment value 10K2  Tolerance: ±1%  (hidden comment: Thick Film)
Resistor SMD chip 10.2K Ohm 0.1W 1% 0603; Manufacturer 1: Yageo; Manufacturer Part Number 1: RC0603FR-0710K2L; Ratings: 1/10W; Parameter Name: ±100ppm/°C; SCDType: undef; Package / Case: 0603 (1608 Metric); ComponentLink1URL: http://www.yageo.com/documents/recent/PYu-RC0603_51_RoHS_L_4.pdf; ComponentLink1Description: http://www.yageo.com/documents/recent/PYu-RC0603_51_RoHS_L_4.pdf; Supplier 1: Digi-Key; Supplier Part Number 1: 311-10.2KHRCT-ND
footprint RESC1608X55N (Chip Resistor, Body 1.6x0.8mm, 0603, IPC Medium Density)
pins: 1, 2

## RES_10K_0402_1%
designator R?, comment value 10K  Tolerance: ±1%  (hidden comment: Thick Film)
Resistor SMD chip 10k Ohm 0.063W 1% 0402; Manufacturer 1: Vishay Dale; Manufacturer Part Number 1: CRCW040210K0FKED; Ratings: 1/16 W; SCDType: spec; Package / Case: 0402 (1005 Metric); Manufacturer 2: Yageo; Manufacturer Part Number 2: RC0402FR-0710KL; Supplier 1: Digi-Key; Supplier Part Number 1: 541-10.0KLCT-ND; ComponentLink1URL: http://www.vishay.com/doc?20035; ComponentLink1Description: http://www.vishay.com/doc?20035; Supplier 2: Digi-Key; Supplier Part Number 2: 311-10.0KLRCT-ND; ComponentLink2URL: http://www.yageo.com/documents/recent/PYu-RC0402_51_RoHS_L_6.pdf; ComponentLink2Description: http://www.yageo.com/documents/recent/PYu-RC0402_51_RoHS_L_6.pdf
footprint RESC1005X40N (Chip Resistor, Body 1.0x0.5mm, EIA 0402, IPC Medium Density)
pins: 1, 2

## RES_10K_0402_5%
designator R?, comment value 10K  (hidden comment: Thick Film)
Resistor SMD chip 10k Ohm 0.063W 5% 0402; Manufacturer 1: Vishay Dale; Manufacturer Part Number 1: CRCW040210K0FKED; Ratings: 1/16 W; SCDType: undef; Package / Case: 0402 (1005 Metric); Tolerance: ±5%; Manufacturer 2: Yageo; Manufacturer Part Number 2: RC0402JR-0710KL; Supplier 1: Digi-Key; Supplier Part Number 1: 541-10.0KLCT-ND; ComponentLink1URL: http://www.vishay.com/doc?20035; ComponentLink1Description: http://www.vishay.com/doc?20035; Supplier 2: Digi-Key; Supplier Part Number 2: 311-10KJRCT-ND; ComponentLink2URL: http://www.yageo.com/documents/recent/PYu-RC0402_51_RoHS_L_6.pdf; ComponentLink2Description: http://www.yageo.com/documents/recent/PYu-RC0402_51_RoHS_L_6.pdf
footprint RESC1005X40N (Chip Resistor, Body 1.0x0.5mm, EIA 0402, IPC Medium Density)
pins: 1, 2

## RES_10K_0603_1%
designator R?, comment value 10K  Tolerance: ±1%  (hidden comment: Thick Film)
Resistor SMD chip 10k Ohm 0.1W 1% 0603; Manufacturer 1: Yageo; Manufacturer Part Number 1: RC0603FR-0710KL; Ratings: 1/10W; SCDType: spec; Package / Case: 0603 (1608 Metric); Supplier 1: Digi-Key; Supplier Part Number 1: 311-10.0KHRCT-ND
footprint RESC1608X55N (Chip Resistor, Body 1.6x0.8mm, 0603, IPC Medium Density)
pins: 1, 2

## RES_10K_0603_5%
designator R?, comment value 10K  (hidden comment: Thick Film)
Resistor SMD chip 10k Ohm 0.1W 5% 0603; Manufacturer 1: Yageo; Manufacturer Part Number 1: RC0603JR-0710KL; Ratings: 1/10 W; SCDType: spec; Package / Case: 0603 (1608 metric); Tolerance: ±5%; Material: Thick Film; Supplier 1: Digi-Key; Supplier Part Number 1: 311-10KGRCT-ND; Supplier 2: Digi-Key; Supplier Part Number 2: 541-10KGCT-ND; Manufacturer 2: Vishay Dale; Manufacturer Part Number 2: CRCW060310K0JNEA; ComponentLink2URL: http://www.vishay.com/doc?20035; ComponentLink2Description: http://www.vishay.com/doc?20035; ComponentLink1URL: http://www.yageo.com/documents/recent/PYu-RC0603_51_RoHS_L_4.pdf; ComponentLink1Description: http://www.yageo.com/documents/recent/PYu-RC0603_51_RoHS_L_4.pdf
footprint RESC1608X55N (Chip Resistor, Body 1.6x0.8mm, 0603, IPC Medium Density)
pins: 1, 2

## RES_10K_0805_1%
designator R?, comment value 10K  Tolerance: ±1%  (hidden comment: Thick Film)
Resistor SMD chip 10k Ohm 0.125W 1% 0805; Manufacturer 1: Vishay/Dale; Manufacturer Part Number 1: CRCW080510K0FKEA; Ratings: 1/8W; SCDType: spec; Package / Case: 0805 (2012 metric); Supplier 1: Digi-Key; Supplier Part Number 1: 541-10.0KCCT-ND; Material: Thick Film
footprint RESC2012X70N (Chip Resistor, Body 2.0x1.2mm, 0805, IPC Medium Density)
pins: 1, 2

## RES_10K_0805_5%
designator R?, comment value 10K  (hidden comment: Thick Film)
Resistor SMD chip 10k Ohm 0.125W 5% 0805; Manufacturer 1: Yageo; Manufacturer Part Number 1: RC0805JR-0710KL; Ratings: 1/8 W; SCDType: spec; Package / Case: 0805 (2012 metric); Tolerance: ±5%; Material: Thick Film; Supplier 1: Digi-Key; Supplier Part Number 1: 311-10KARCT-ND
footprint RESC2012X70N (Chip Resistor, Body 2.0x1.2mm, 0805, IPC Medium Density)
pins: 1, 2

## RES_10R_0402_5%
designator R?, comment value 10R  (hidden comment: Thick Film)
Resistor SMD chip 10 Ohm 0.063W 5% 0402; Manufacturer 1: Yageo; Manufacturer Part Number 1: RC0402JR-0710RL; Ratings: 1/16 W; SCDType: spec; Package / Case: 0402 (1005 Metric); Tolerance: ±5%; Supplier 1: Digi-Key; Supplier Part Number 1: 311-10JRCT-ND; RoHS 1: RoHS Compliant; ComponentLink1URL: http://www.yageo.com/documents/recent/PYu-RC0402_51_RoHS_L_6.pdf; ComponentLink1Description: http://www.yageo.com/documents/recent/PYu-RC0402_51_RoHS_L_6.pdf; Supplier 2: Digi-Key; Supplier Part Number 2: RHM10CECT-ND; Manufacturer 2: Rohm Semiconductor; Manufacturer Part Number 2: MCR01MRTJ100; RoHS 2: RoHS Compliant; ComponentLink2URL: http://rohmfs.rohm.com/en/products/databook/datasheet/passive/resistor/chip_resistor/mcr_g.pdf; ComponentLink2Description: http://rohmfs.rohm.com/en/products/databook/datasheet/passive/resistor/chip_resistor/mcr_g.pdf; Supplier 3: Digi-Key; Supplier Part Number 3: 541-10JCT-ND; Manufacturer 3: Vishay Dale; Manufacturer Part Number 3: CRCW040210R0JNED; RoHS 3: RoHS Compliant; ComponentLink3URL: http://www.vishay.com/doc?20035; ComponentLink3Description: http://www.vishay.com/doc?20035; Supplier 4: Digi-Key; Supplier Part Number 4: RMCF0402JT10R0CT-ND; Manufacturer 4: Stackpole Electronics Inc; Manufacturer Part Number 4: RMCF0402JT10R0; RoHS 4: RoHS Compliant; ComponentLink4URL: http://www.seielect.com/Catalog/SEI-RMCF_RMCP.pdf; ComponentLink4Description: http://www.seielect.com/Catalog/SEI-RMCF_RMCP.pdf; Supplier 5: Digi-Key; Supplier Part Number 5: 1276-4328-1-ND; Manufacturer 5: Samsung Electro-Mechanics America, Inc; Manufacturer Part Number 5: RC1005J100CS; RoHS 5: RoHS Compliant; ComponentLink5URL: http://www.samsungsem.com/servlet/FileDownload?filename=productcatalog/pdf/Chip_Resistor.pdf; ComponentLink5Description: http://www.samsungsem.com/servlet/FileDownload?filename=productcatalog/pdf/Chip_Resistor.pdf
footprint RESC1005X40N (Chip Resistor, Body 1.0x0.5mm, EIA 0402, IPC Medium Density)
pins: 1, 2

## RES_10R_0603_5%
designator R?, comment value 10R  (hidden comment: Thick Film)
Resistor SMD chip 10 Ohm 0.1W 5% 0603; Manufacturer 1: Yageo; Manufacturer Part Number 1: RC0603JR-0710RL; Ratings: 1/10 W; SCDType: spec; Package / Case: 0603 (1608 metric); Tolerance: ±5%; Supplier 1: Digi-Key; Supplier Part Number 1: 311-10GRCT-ND; ComponentLink1URL: http://www.yageo.com/documents/recent/PYu-RC0603_51_RoHS_L_4.pdf; ComponentLink1Description: http://www.yageo.com/documents/recent/PYu-RC0603_51_RoHS_L_4.pdf
footprint RESC1608X55N (Chip Resistor, Body 1.6x0.8mm, 0603, IPC Medium Density)
pins: 1, 2

## RES_10R_0805_5%
designator R?, comment value 10R  (hidden comment: Thick Film)
Resistor SMD chip 10 Ohm 0.125W 5% 0805; Manufacturer 1: Vishay/Dale; Manufacturer Part Number 1: CRCW080510R0JNEA; Ratings: 1/8W; SCDType: spec; Tolerance: ±5%; Package / Case: 0805 (2012 metric); Supplier 1: Digi-Key; Supplier Part Number 1: 541-10ATR-ND
footprint RESC2012X70N (Chip Resistor, Body 2.0x1.2mm, 0805, IPC Medium Density)
pins: 1, 2

## RES_10R_1206_5%
designator R?, comment value 10R  (hidden comment: Thick Film)
Resistor SMD chip 10 Ohm 0.25W 5% 1206; Manufacturer 1: Samsung Electro-Mechanics America, Inc; Manufacturer Part Number 1: RC3216J100CS; Ratings: 1/4W; SCDType: spec; Tolerance: ±5%; Package / Case: 1206 (3216 metric); Supplier 1: Digi-Key; Supplier Part Number 1: 1276-5863-1-ND; RoHS 1: RoHS Compliant; ComponentLink1URL: http://www.samsungsem.com/servlet/FileDownload?filename=productcatalog/pdf/Chip_Resistor.pdf; ComponentLink1Description: http://www.samsungsem.com/servlet/FileDownload?filename=productcatalog/pdf/Chip_Resistor.pdf; Supplier 2: Digi-Key; Supplier Part Number 2: 311-10ERCT-ND; Manufacturer 2: Yageo; Manufacturer Part Number 2: RC1206JR-0710RL; RoHS 2: RoHS Compliant; ComponentLink2URL: http://www.yageo.com/documents/recent/PYu-RC1206_51_RoHS_L-4.pdf; ComponentLink2Description: http://www.yageo.com/documents/recent/PYu-RC1206_51_RoHS_L-4.pdf; Supplier 3: Digi-Key; Supplier Part Number 3: RMCF1206JT10R0CT-ND; Manufacturer 3: Stackpole Electronics Inc; Manufacturer Part Number 3: RMCF1206JT10R0; RoHS 3: RoHS Compliant; ComponentLink3URL: http://www.seielect.com/Catalog/SEI-RMCF_RMCP.pdf; ComponentLink3Description: http://www.seielect.com/Catalog/SEI-RMCF_RMCP.pdf; Supplier 4: Digi-Key; Supplier Part Number 4: P10ECT-ND; Manufacturer 4: Panasonic Electronic Components; Manufacturer Part Number 4: ERJ-8GEYJ100V; RoHS 4: RoHS Compliant; ComponentLink4URL: http://industrial.panasonic.com/www-cgi/jvcr13pz.cgi?E+PZ+3+AOA0001+ERJ8GEYJ100V+7+WW; ComponentLink4Description: http://industrial.panasonic.com/www-cgi/jvcr13pz.cgi?E+PZ+3+AOA0001+ERJ8GEYJ100V+7+WW; Supplier 5: Digi-Key; Supplier Part Number 5: RHM10CKCT-ND; Manufacturer 5: Rohm Semiconductor; Manufacturer Part Number 5: MCR18ERTJ100; RoHS 5: RoHS Compliant; ComponentLink5URL: http://rohmfs.rohm.com/en/products/databook/datasheet/passive/resistor/chip_resistor/mcr_g.pdf; ComponentLink5Description: http://rohmfs.rohm.com/en/products/databook/datasheet/passive/resistor/chip_resistor/mcr_g.pdf
footprint RESC3216X70N (Chip Resistor, Body 3.2x1.6mm, 1206, IPC Medium Density)
pins: 1, 2

## RES_10R_1210_1%
designator R?, comment value 10R  Tolerance: ±1%  (hidden comment: Thick Film)
Resistor SMD chip 10 Ohm 0.5W 1% 1210; Manufacturer 1: Panasonic - ECG; Manufacturer Part Number 1: ERJ-14NF10R0U; Ratings: 1/2W; SCDType: spec; Package / Case: 1210 (3225 Metric); Supplier 1: Digi-Key; Supplier Part Number 1: P10.0AACT-ND; ComponentLink1URL: http://industrial.panasonic.com/www-cgi/jvcr13pz.cgi?E+PZ+3+AOA0002+ERJ14NF10R0U+7+WW; ComponentLink1Description: http://industrial.panasonic.com/www-cgi/jvcr13pz.cgi?E+PZ+3+AOA0002+ERJ14NF10R0U+7+WW
footprint RESC3225X70N (Chip Resistor, Body 3.2x2.5mm, 1210, IPC Medium Density)
pins: 1, 2

## RES_10R_2010_5%
designator R?, comment value 10R  Tolerance: ±5%  (hidden comment: Thick Film)
Resistor SMD chip 10 Ohm 0.25W 5% 2010; Manufacturer 1: Vishay/Dale; Manufacturer Part Number 1: CRCW120610R0JNEA; Ratings: 1/4W; SCDType: undef; Package / Case: 2010; Supplier 1: Digi-Key; Supplier Part Number 1: 541-10ECT-ND; ComponentLink1URL: http://www.vishay.com/doc?20035; ComponentLink1Description: http://www.vishay.com/doc?20035
footprint RESC5025X70N (Chip Resistor, Body 5.0x2.5mm, 2010, IPC Medium Density)
pins: 1, 2

## RES_10R_Axial_1W_5%
designator R?, comment value 10R  (hidden comment: Metal Film)
Resistor THD 10 Ohm 1W 5% Metal Film; Manufacturer 1: Vishay/BC Components; Manufacturer Part Number 1: PR01000101009JR500; SCDType: spec; Tolerance: ±5%; Package / Case: 2.5x8.0mm DxL; Ratings: 1W; Supplier 1: Digi-Key; Supplier Part Number 1: PPC10W-1CT-ND
footprint AXIAL-0.6 (Axial Device, Thru-Hole; 2 Leads; 0.6 in Pin Spacing)
pins: 1, 2

## RES_10R_Axial_4W_1%
designator R?, comment value 10R  Tolerance: ±1%  (hidden comment: Wirewound)
Resistor THD 10 Ohm 4W 1% Wirewound; Manufacturer Part Number 1: MRA-0510R00FE12; Manufacturer 1: Vishay Dale; Ratings: 4W; 30ppm; Parameter Name: 0.167" Dia x 0.562" L (4.24mm x 14.27mm); SCDType: undef; Package / Case: 4.24x14.27mm DxL; Material: Wirewound; Size / Dimension: 0.187" Dia x 0.622" L (4.75mm x 15.80mm); ComponentLink1URL: http://media.digikey.com/pdf/Data%20Sheets/Vishay%20Dale%20PDFs/MRA_Series.pdf; ComponentLink1Description: MRA Series datasheet; Supplier 1: Digi-Key; Supplier Part Number 1: MRA05-10-ND; Features: Non-Inductive, Non-Magnetic
footprint RESTH_AXIAL_MRA-05 (MRA-05 Axial Resistor Thru-Hole; 2 Leads)
pins: 1, 2

## RES_10R_Axial_10W_1%
designator R?, comment value 10R  Tolerance: ±1%  (hidden comment: Wirewound)
Resistor THD 10 Ohm 10W 1% Wirewound; Manufacturer 1: Vishay/Dale; Manufacturer Part Number 1: RS01010R00FE73; SCDType: spec; Package / Case: 9.53x47.50mm DxL; Ratings: 10W; Supplier 1: Digi-Key; Supplier Part Number 1: RSD-10RCT-ND; Material: Wirewound; Size / Dimension: 0.375" Dia x 1.870" L (9.53mm x 47.50mm); ComponentLink1URL: http://www.vishay.com/doc?30204; ComponentLink1Description: http://www.vishay.com/doc?30204
footprint RESTH_AXIAL_RS010 (Axial Resistor Thru-Hole; 2 Leads)
pins: 1, 2

## RES_12K_Axial_0.25W_5%
designator R?, comment value 12k  (hidden comment: Carbon Film)
Resistor THD Axial 12k Ohm 0.25W 5% Carbon Film; Manufacturer 1: Yageo; Manufacturer Part Number 1: CFR-25JB-12K; Ratings: 1/4W; SCDType: spec; Tolerance: ±5%; Package / Case: Axial; Supplier 1: Digi-Key; Supplier Part Number 1: 12KQBK-ND
footprint RESTH_AXIAL-0.4
pins: 1, 2